# EAGLE library part X-NUCLEO-IHM02A1 (library nucleo)
Two-axis stepper motor driver expansion board based on L6470
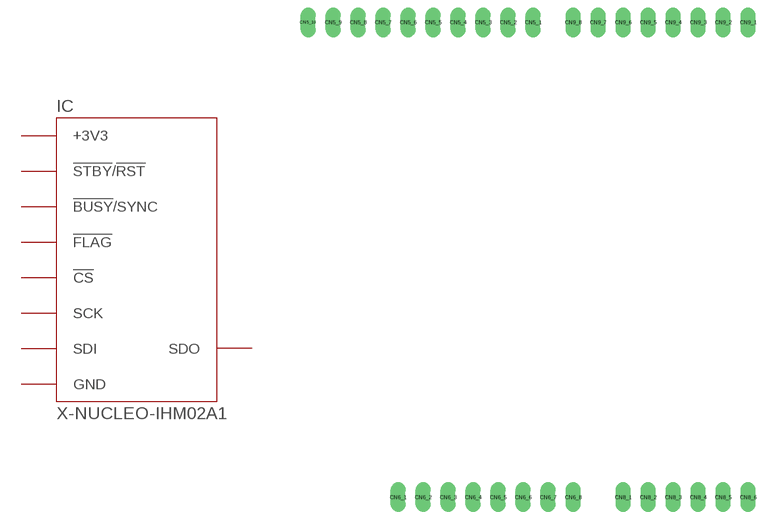
[diagram p6: symbol with the pads of X-NUCLEO-IHM02A1; footprint X-NUCLEO-IHM02A1]

Designator prefix IC

## X-NUCLEO-IHM02A1  [X-NUCLEO-IHM02A1]
CN5_4  SDI
CN5_5  SDO
CN6_4  +3V3
CN6_6  GND
CN6_7  GND
CN8_3  !CS!
CN8_5  !FLAG!
CN8_6  !BUSY!/SYNC
CN9_4  SCK
CN9_5  !STBY!/!RST!

## Footprint X-NUCLEO-IHM02A1 (pad centres in mm)
X-NUCLEO-IHM02A1
drill 1.016 long: CN5_1 41.656,50.8; CN5_2 39.116,50.8; CN5_3 36.576,50.8; CN5_4 34.036,50.8; CN5_5 31.496,50.8; CN5_6 28.956,50.8; CN5_7 26.416,50.8; CN5_8 23.876,50.8; CN5_9 21.336,50.8; CN5_10 18.796,50.8; CN6_1 27.94,2.54; CN6_2 30.48,2.54; CN6_3 33.02,2.54; CN6_4 35.56,2.54; CN6_5 38.1,2.54; CN6_6 40.64,2.54; CN6_7 43.18,2.54; CN6_8 45.72,2.54; CN8_1 50.8,2.54; CN8_2 53.34,2.54; CN8_3 55.88,2.54; CN8_4 58.42,2.54; CN8_5 60.96,2.54; CN8_6 63.5,2.54; CN9_1 63.5,50.8; CN9_2 60.96,50.8; CN9_3 58.42,50.8; CN9_4 55.88,50.8; CN9_5 53.34,50.8; CN9_6 50.8,50.8; CN9_7 48.26,50.8; CN9_8 45.72,50.8